# EAGLE library part SENSEAIR_S8 (library myownthings)
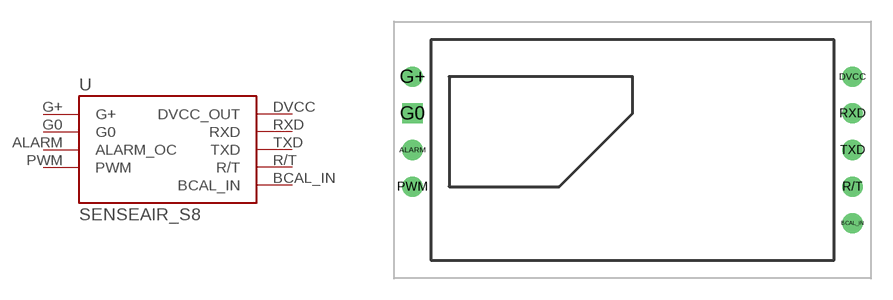
[diagram p0: symbol with the pads of SENSEAIR_S8; footprint SENSEAIR_S8]

Designator prefix -

## SENSEAIR_S8  [SENSEAIR_S8]
ALARM  ALARM_OC
BCAL_IN  BCAL_IN
DVCC  DVCC_OUT
G0  G0
G+  G+
PWM  PWM
R/T  R/T
RXD  RXD
TXD  TXD

## Footprint SENSEAIR_S8 (pad centres in mm)
drill 0.889: ALARM -15.24,0; BCAL_IN 15.24,-5.08; DVCC 15.24,5.08; G+ -15.24,5.08; PWM -15.24,-2.54; R/T 15.24,-2.54; RXD 15.24,2.54; TXD 15.24,0
drill 0.889 square: G0 -15.24,2.54